# Altium schematic symbol library PNP3.Schlib: 1 symbol
Pins are listed as number, name and electrical type; pins without a type are passive.

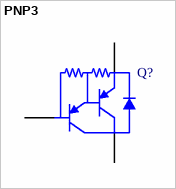
[diagram p0: symbol PNP3]

## PNP3
designator Q?
PNP Darlington Bipolar Transistor
pins: 1 C, 2 B, 3 E